# Altium schematic symbol library 47018-2000.SchLib: 1 symbol
Pins are listed as number, name and electrical type; pins without a type are passive.

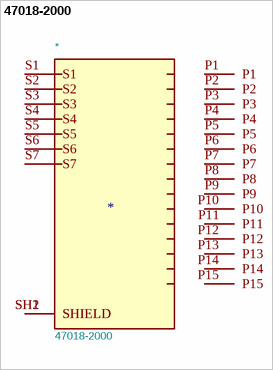
[diagram p0: symbol 47018-2000]

## 47018-2000
designator *  value 47018-2000
\n                        \n                            22 Position SATA Receptacle Connector Solder Surface Mount, Right Angle\n                        \n; MF: Molex; MP: 470182000; SNAPEDA_PN: 0470184000; Footprint: 47018-2000:MOLEX_47018-2000; MAXIMUM_PACKAGE_HEIGHT: 5.15mm; Package: None; Price: None; Check_prices: https://www.snapeda.com/parts/470182000/Molex/view-part/?ref=eda; STANDARD: Manufacturer Recommendations; PARTREV: M; SnapEDA_Link: https://www.snapeda.com/parts/470182000/Molex/view-part/?ref=snap; Description_: \n                        \n                            22 Position SATA Receptacle Connector Solder Surface Mount, Right Angle\n                        \n; Availability: In Stock; MANUFACTURER: Molex
footprint MOLEX_47018-2000
pins: P1, P2, P3, P4, P5, P6, P7, P8, P9, P10, P11, P12, P13, P14, P15, S1, S2, S3, S4, S5, S6, S7, SH1 SHIELD, SH2 SHIELD